# Altium footprint library T35_V2.PcbLib: 35 footprints (part 3 of 3)
Each footprint in its own frame and in the unit in brackets; x right, y up, seen from the top. Pads: shape width x height; smd on the part's side, far side on the other; paste and mask are expansions set on the pad; w line width, h text height; cw(c..) or ccw(c..) is an arc to the next point about the centre after c.
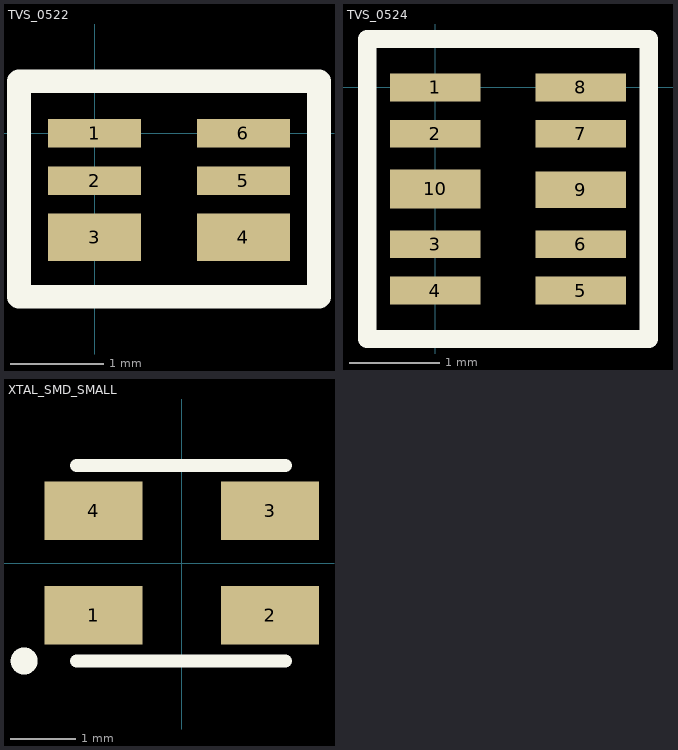
[diagram p2: the footprints below, top view; thin cyan lines are the x and y axes]

## TVS_0522 [mil] "TVS_0524J"
pads (6):
  rect 39.37x12 smd: 1(0,0) 2(0,-20) 5(62.99,-20) 6(62.99,0)
  rect 39.37x20 smd: 3(0,-44) 4(62.99,-44)
Top Overlay:
  lines w10: -32,-69.2 95,-69.2 95,22.14 -32,22.14 -32,-69.2

## TVS_0524 [mm] "TVS_0524J"
pads (10):
  rect 1x0.305 smd: 1(0,0) 2(0,-0.508) 3(0,-1.727) 4(0,-2.235) 5(1.6,-2.235) 6(1.6,-1.727) 7(1.6,-0.508) 8(1.6,0)
  rect 1x0.4 smd: 9(1.6,-1.125)
  rect 1x0.43 smd: 10(0,-1.118)
Top Overlay:
  lines w0.203: -0.75,-2.769 -0.75,0.533 2.35,0.533 2.35,-2.769 -0.75,-2.769

## XTAL_SMD_SMALL [mm]
pads (4):
  rect 1.5x0.9 smd: 1(-1.35,-0.8) 2(1.35,-0.8) 3(1.35,0.8) 4(-1.35,0.8)
Top Overlay:
  circle w0.254: c-2.413,-1.5 r0.08
  lines w0.2: -1.61,-1.5 1.59,-1.5 ; -1.61,1.49 1.59,1.49
3D body "3225.STEP": height 0.55, standoff 0, extent -1.55,-1.24 1.65,1.26